# EAGLE library part STM32F429I-DISCO-LCD (library MDB_HOMEBAK)
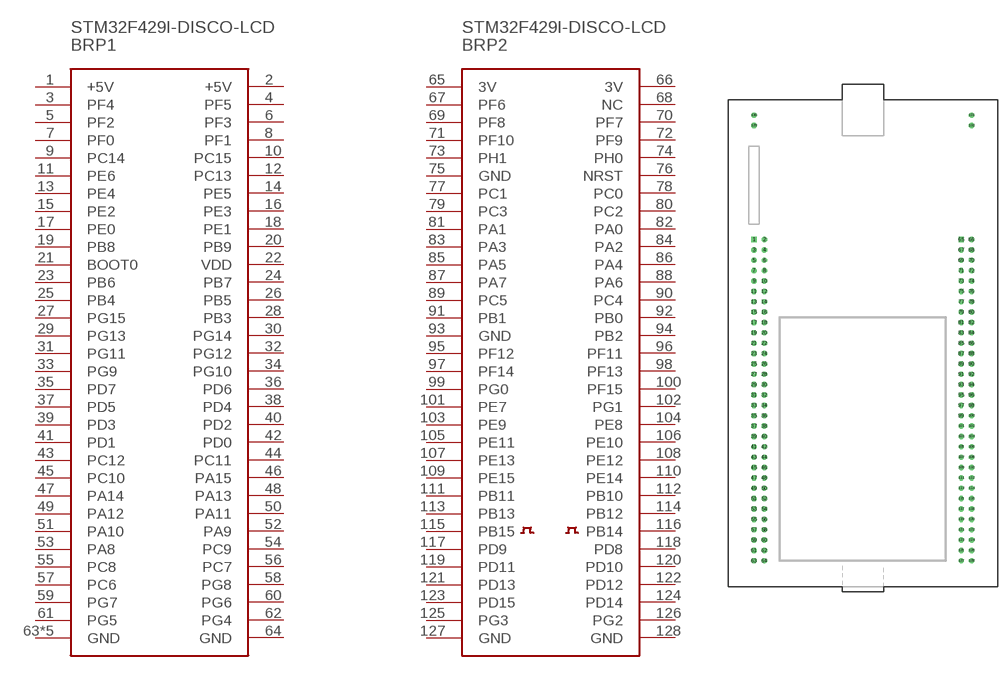
[diagram p32: symbol with the pads of STM32F429I-DISCO; footprint STM32F429I-DISCO]

Designator prefix BR; gates P1=STM32F429I-DISCO-P1 P2=STM32F429I-DISCO-P2

## STM32F429I-DISCO-LCD  [STM32F429I-DISCO]
1  P1:+5V
2  P1:+5V
3  P1:PF4
4  P1:PF5
5  P1:PF2
6  P1:PF3
7  P1:PF0
8  P1:PF1
9  P1:PC14
10  P1:PC15
11  P1:PE6
12  P1:PC13
13  P1:PE4
14  P1:PE5
15  P1:PE2
16  P1:PE3
17  P1:PE0
18  P1:PE1
19  P1:PB8
20  P1:PB9
21  P1:BOOT0
22  P1:VDD
23  P1:PB6
24  P1:PB7
25  P1:PB4
26  P1:PB5
27  P1:PG15
28  P1:PB3
29  P1:PG13
30  P1:PG14
31  P1:PG11
32  P1:PG12
33  P1:PG9
34  P1:PG10
35  P1:PD7
36  P1:PD6
37  P1:PD5
38  P1:PD4
39  P1:PD3
40  P1:PD2
41  P1:PD1
42  P1:PD0
43  P1:PC12
44  P1:PC11
45  P1:PC10
46  P1:PA15
47  P1:PA14
48  P1:PA13
49  P1:PA12
50  P1:PA11
51  P1:PA10
52  P1:PA9
53  P1:PA8
54  P1:PC9
55  P1:PC8
56  P1:PC7
57  P1:PC6
58  P1:PG8
59  P1:PG7
60  P1:PG6
61  P1:PG5
62  P1:PG4
63  P1:GND
64  P1:GND
65  P2:3V
66  P2:3V
67  P2:PF6
68  P2:NC
69  P2:PF8
70  P2:PF7
71  P2:PF10
72  P2:PF9
73  P2:PH1
74  P2:PH0
75  P2:GND
76  P2:NRST
77  P2:PC1
78  P2:PC0
79  P2:PC3
80  P2:PC2
81  P2:PA1
82  P2:PA0
83  P2:PA3
84  P2:PA2
85  P2:PA5
86  P2:PA4
87  P2:PA7
88  P2:PA6
89  P2:PC5
90  P2:PC4
91  P2:PB1
92  P2:PB0
93  P2:GND
94  P2:PB2
95  P2:PF12
96  P2:PF11
97  P2:PF14
98  P2:PF13
99  P2:PG0
100  P2:PF15
101  P2:PE7
102  P2:PG1
103  P2:PE9
104  P2:PE8
105  P2:PE11
106  P2:PE10
107  P2:PE13
108  P2:PE12
109  P2:PE15
110  P2:PE14
111  P2:PB11
112  P2:PB10
113  P2:PB13
114  P2:PB12
115  P2:PB15
116  P2:PB14
117  P2:PD9
118  P2:PD8
119  P2:PD11
120  P2:PD10
121  P2:PD13
122  P2:PD12
123  P2:PD15
124  P2:PD14
125  P2:PG3
126  P2:PG2
127  P2:GND
128  P2:GND
129  P1:GND
130  P1:GND
131  P1:GND
132  P1:GND

## Footprint STM32F429I-DISCO (pad centres in mm)
drill 0.8 square: 1 -26.67,78.74; 65 24.13,78.74
drill 0.8 octagon: 2 -24.13,78.74; 3 -26.67,76.2; 4 -24.13,76.2; 5 -26.67,73.66; 6 -24.13,73.66; 7 -26.67,71.12; 8 -24.13,71.12; 9 -26.67,68.58; 10 -24.13,68.58; 11 -26.67,66.04; 12 -24.13,66.04; 13 -26.67,63.5; 14 -24.13,63.5; 15 -26.67,60.96; 16 -24.13,60.96; 17 -26.67,58.42; 18 -24.13,58.42; 19 -26.67,55.88; 20 -24.13,55.88; 21 -26.67,53.34; 22 -24.13,53.34; 23 -26.67,50.8; 24 -24.13,50.8; 25 -26.67,48.26; 26 -24.13,48.26; 27 -26.67,45.72; 28 -24.13,45.72; 29 -26.67,43.18; 30 -24.13,43.18; 31 -26.67,40.64; 32 -24.13,40.64; 33 -26.67,38.1; 34 -24.13,38.1; 35 -26.67,35.56; 36 -24.13,35.56; 37 -26.67,33.02; 38 -24.13,33.02; 39 -26.67,30.48; 40 -24.13,30.48; 41 -26.67,27.94; 42 -24.13,27.94; 43 -26.67,25.4; 44 -24.13,25.4; 45 -26.67,22.86; 46 -24.13,22.86; 47 -26.67,20.32; 48 -24.13,20.32; 49 -26.67,17.78; 50 -24.13,17.78; 51 -26.67,15.24; 52 -24.13,15.24; 53 -26.67,12.7; 54 -24.13,12.7; 55 -26.67,10.16; 56 -24.13,10.16; 57 -26.67,7.62; 58 -24.13,7.62; 59 -26.67,5.08; 60 -24.13,5.08; 61 -26.67,2.54; 62 -24.13,2.54; 63 -26.67,0; 64 -24.13,0; 66 26.67,78.74; 67 24.13,76.2; 68 26.67,76.2; 69 24.13,73.66; 70 26.67,73.66; 71 24.13,71.12; 72 26.67,71.12; 73 24.13,68.58; 74 26.67,68.58; 75 24.13,66.04; 76 26.67,66.04; 77 24.13,63.5; 78 26.67,63.5; 79 24.13,60.96; 80 26.67,60.96; 81 24.13,58.42; 82 26.67,58.42; 83 24.13,55.88; 84 26.67,55.88; 85 24.13,53.34; 86 26.67,53.34; 87 24.13,50.8; 88 26.67,50.8; 89 24.13,48.26; 90 26.67,48.26; 91 24.13,45.72; 92 26.67,45.72; 93 24.13,43.18; 94 26.67,43.18; 95 24.13,40.64; 96 26.67,40.64; 97 24.13,38.1; 98 26.67,38.1; 99 24.13,35.56; 100 26.67,35.56; 101 24.13,33.02; 102 26.67,33.02; 103 24.13,30.48; 104 26.67,30.48; 105 24.13,27.94; 106 26.67,27.94; 107 24.13,25.4; 108 26.67,25.4; 109 24.13,22.86; 110 26.67,22.86; 111 24.13,20.32; 112 26.67,20.32; 113 24.13,17.78; 114 26.67,17.78; 115 24.13,15.24; 116 26.67,15.24; 117 24.13,12.7; 118 26.67,12.7; 119 24.13,10.16; 120 26.67,10.16; 121 24.13,7.62; 122 26.67,7.62; 123 24.13,5.08; 124 26.67,5.08; 125 24.13,2.54; 126 26.67,2.54; 127 24.13,0; 128 26.67,0; 129 -26.67,106.68; 130 -26.67,109.22; 131 26.67,109.22; 132 26.67,106.68